# Altium schematic symbol library 电机驱动.SchLib: 1 symbol
Pins are listed as number, name and electrical type; pins without a type are passive.

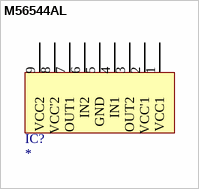
[diagram p0: symbol M56544AL]

## M56544AL
designator IC?
pins: 1 VCC1, 2 VCC'1, 3 OUT2, 4 IN1, 5 GND, 6 IN2, 7 OUT1, 8 VCC'2, 9 VCC2